# Altium schematic symbol library MPM54304GMN-0000.SchLib: 2 symbols
Pins are listed as number, name and electrical type; pins without a type are passive.

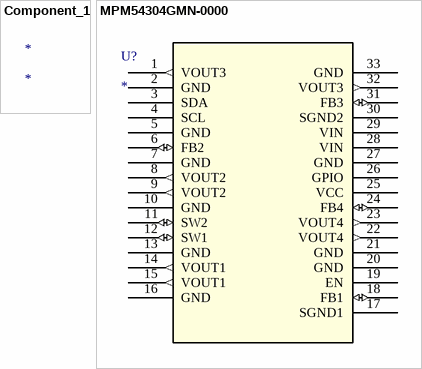
[diagram p0: symbols Component_1 to MPM54304GMN-0000]

## Component_1
designator *

## MPM54304GMN-0000
designator U?
No Description Available; Mfr_Name: Monolithic Power Systems; RefDes: RefDes; Type: Type
footprint LGA7x7x2_MNP
pins: 1 VOUT3 (out), 2 GND (power), 3 SDA, 4 SCL, 5 GND (power), 6 FB2 (io), 7 GND (power), 8 VOUT2 (out), 9 VOUT2 (out), 10 GND (power), 11 SW2 (io), 12 SW1 (io), 13 GND (power), 14 VOUT1 (out), 15 VOUT1 (out), 16 GND (power), 17 SGND1 (power), 18 FB1 (io), 19 EN, 20 GND (power), 21 GND (power), 22 VOUT4 (out), 23 VOUT4 (out), 24 FB4 (io), 25 VCC (power), 26 GPIO, 27 GND (power), 28 VIN, 29 VIN, 30 SGND2 (power), 31 FB3 (io), 32 VOUT3 (out), 33 GND (power)